# Altium schematic symbol library ADAM LIBRARY.SCHLIB: 89 symbols (part 1 of 2)
Pins are listed as number, name and electrical type; pins without a type are passive.

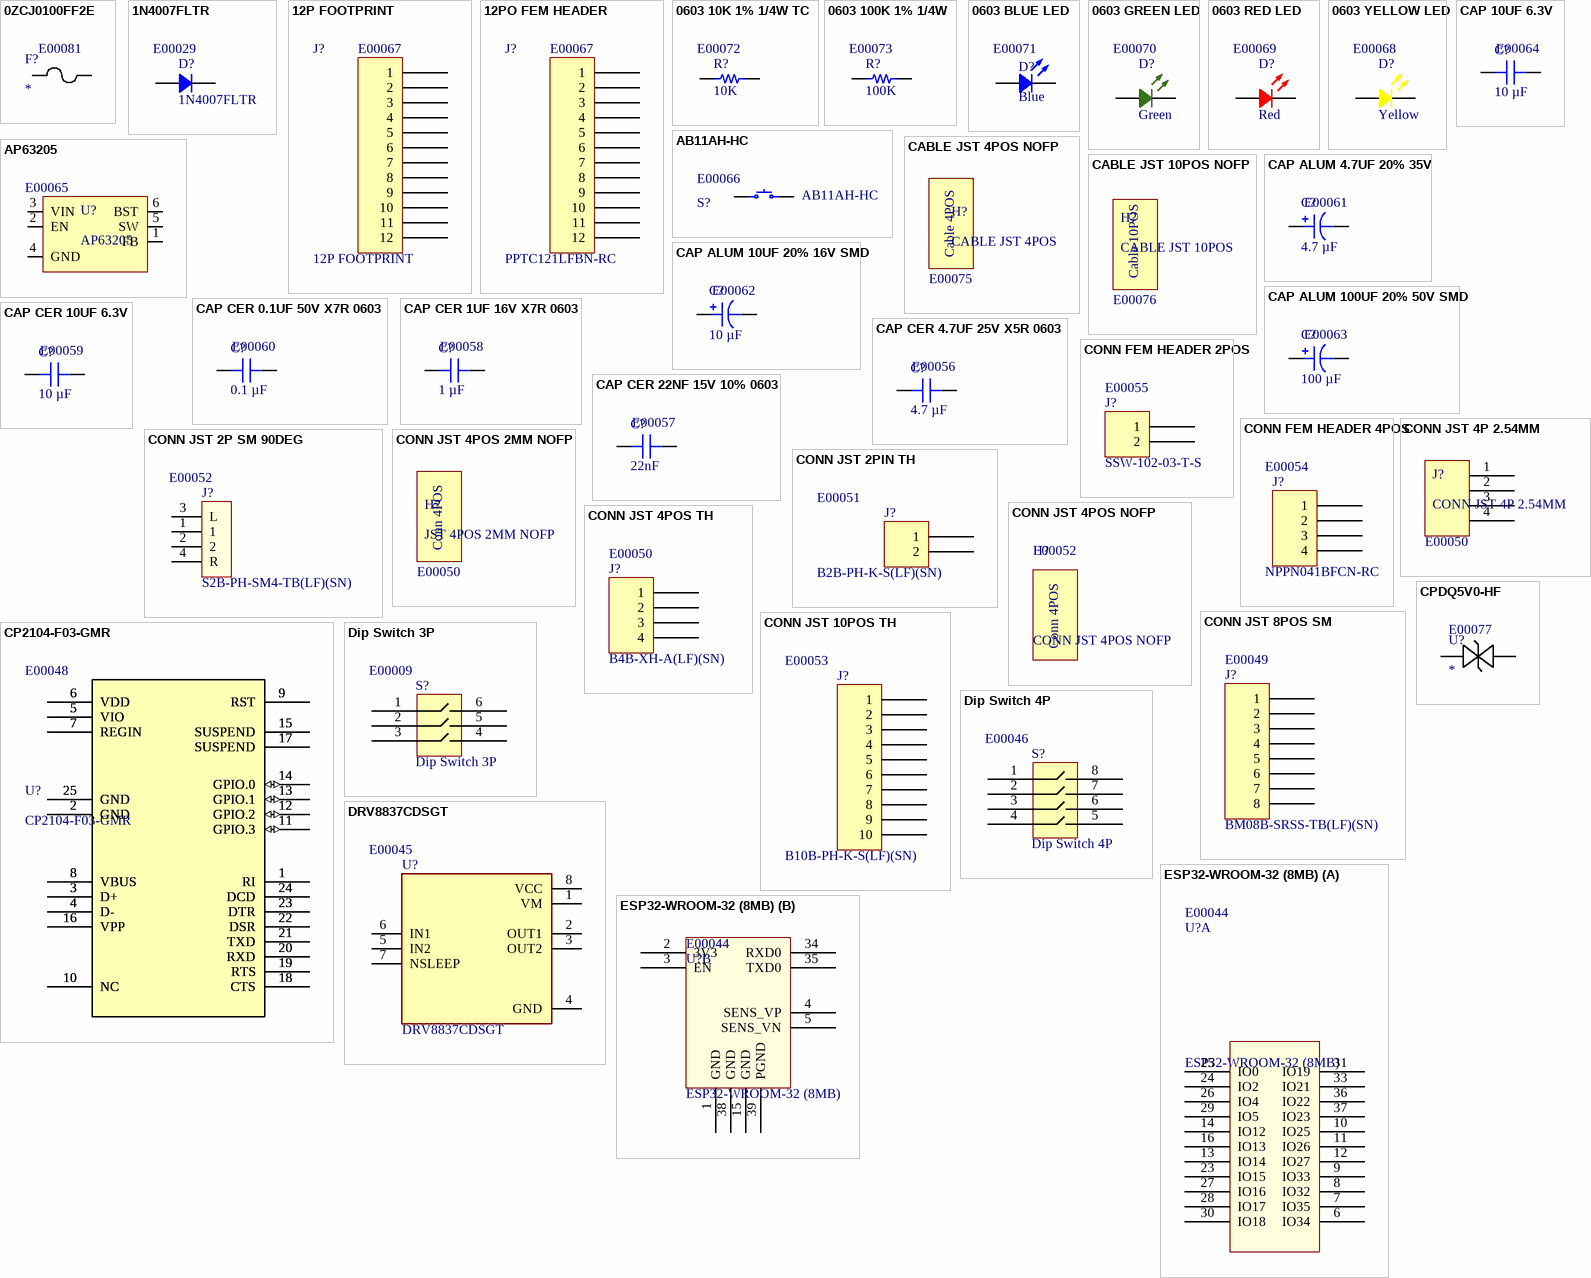
[diagram p0: symbols 0ZCJ0100FF2E to ESP32-WROOM-32 (8MB)]

## 0ZCJ0100FF2E
designator F?  ADAM Inventory Number 1: E00081
Polyswitch 1A 5V; Mfr_Name: Littelfuse Inc; Manufacturer Part Number 1: 0ZCJ0100FF2E; Supplier 1: Digi-Key; Supplier Part Number 1: 507-1806-1-ND
footprint FUSE_NANOSMDCH030F/24-02_LTF
pins: 1, 2

## 1N4007FLTR
designator D?  ADAM Inventory Number 1: E00029
STANDARD RECTIFIER 1000V SOD-123; Manufacturer: SMC Diode Solutions; Capacitance @ Vr, F: 15pF @ 4V, 1MHz; Current - Average Rectified (Io): 1A; Current - Reverse Leakage @ Vr: 5µA @ 1000V; Speed: Standard Recovery >500ns, > 200mA (Io); Voltage - Forward (Vf) (Max) @ If: 1.1V @ 1A; ComponentLink1Description: Datasheet; ComponentLink1URL: http://www.smc-diodes.com/propdf/1N4001FL-1N4007FL%20N1646%20REV.A.pdf; ComponentLink2Description: DigiKey Link; ComponentLink2URL: http://digikey.com/product-detail/en/smc-diode-solutions/1N4007FLTR/1655-1N4007FLCT-ND/11657827; Diode Type: Standard; LastUpdated: 2020-08-30 20:59:55; Lifecycle Status: Active; Minimum Order: 1; Mounting Type: Surface Mount; Package / Case: SOD-123F; Packaging: TapeAndReel; PartId: 3314; Price: 0.01; Supplier 1: DigiKey; Supplier Part Number 1: 1655-1N4007FLCT-ND; Supplier Device Package: SOD-123FL; Voltage - DC Reverse (Vr) (Max): 1000V; Manufacturer Part Number 1: 1N4007FLTR
footprint SOD123F (Footprint diode)
pins: 1, 2

## 12P FOOTPRINT
designator J?  ADAM Inventory Number 1: E00067
FOOTPRINT FOR TEST OR JUST IN CASE; Manufacturer: Harwin Inc.; Manufacturer Part Number 1: PPTC121LFBN-RC; Connector Type: Receptacle; Current Rating (Amps): 3A; Mated Stacking Heights: 11.04mm, 12.63mm; Material Flammability Rating: UL94 V-0; Number of Positions: 12; Number of Positions Loaded: All; Style: Board to Board or Cable; ComponentLink1Description: Datasheet; ComponentLink1URL: https://cdn.harwin.com/pdfs/C001XX_M20_Series_Connectors.pdf; ComponentLink2Description: DigiKey Link; ComponentLink2URL: http://digikey.com/product-detail/en/harwin-inc/M20-7821242/952-1852-ND/3727819; Contact Finish - Mating: Gold; Contact Finish - Post: Tin; Contact Finish Thickness - Mating: Flash; Contact Type: Female Socket; Fastening Type: Push-Pull; Insulation Color: Black; LastUpdated: 2022-09-21 18:59:31; Lifecycle Status: Active; Minimum Order: 5004; Mounting Type: Through Hole; Number of Rows: 1; Operating Temperature: -40°C ~ 105°C; Packaging: Tube; Part Status: Active; Price: 0.74; Series: M20; Termination: Solder; Supplier 1: Digi-Key; Supplier Part Number 1: S6100-ND
footprint CONN 12PIN FEMALE (12 pin female conn 0.5mm spacing)
pins: 1, 2, 3, 4, 5, 6, 7, 8, 9, 10, 11, 12

## 12PO FEM HEADER
designator J?, comment PPTC121LFBN-RC  ADAM Inventory Number 1: E00067
CONN RCPT 12POS 0.1 GOLD PCB; Manufacturer: Harwin Inc.; Connector Type: Receptacle; Current Rating (Amps): 3A; Mated Stacking Heights: 11.04mm, 12.63mm; Material Flammability Rating: UL94 V-0; Number of Positions: 12; Number of Positions Loaded: All; Style: Board to Board or Cable; ComponentLink1Description: Datasheet; ComponentLink1URL: https://cdn.harwin.com/pdfs/C001XX_M20_Series_Connectors.pdf; ComponentLink2Description: DigiKey Link; ComponentLink2URL: http://digikey.com/product-detail/en/harwin-inc/M20-7821242/952-1852-ND/3727819; Contact Finish - Mating: Gold; Contact Finish - Post: Tin; Contact Finish Thickness - Mating: Flash; Contact Type: Female Socket; Fastening Type: Push-Pull; Insulation Color: Black; LastUpdated: 2022-09-21 18:59:31; Lifecycle Status: Active; Minimum Order: 5004; Mounting Type: Through Hole; Number of Rows: 1; Operating Temperature: -40°C ~ 105°C; Packaging: Tube; Part Status: Active; Price: 0.74; Series: M20; Termination: Solder; Supplier 1: Digi-Key; Supplier Part Number 1: S6100-ND; Manufacturer Part Number 1: PPTC121LFBN-RC
footprint CONN 12PIN FEMALE (12 pin female conn 0.5mm spacing)
pins: 1, 2, 3, 4, 5, 6, 7, 8, 9, 10, 11, 12

## 0603 10K 1% 1/4W TC
designator R?, comment ADAM Inventory Number 1: E00072  (hidden comment: 10K)
RES 0603 10K 1% 1/4W TC; Manufacturer Part Number 1: CMP0603-FX-1002ELF; Manufacturer: Bourns Inc.; Power (Watts): 0.25W, 1/4W; Temperature Coefficient: ±100ppm/°C; ComponentLink1Description: Datasheet; ComponentLink1URL: https://www.bourns.com/docs/Product-Datasheets/CMP.pdf; ComponentLink2Description: DigiKey Link; ComponentLink2URL: https://www.digikey.com/en/products/detail/bourns-inc/CMP0603-FX-1002ELF/12333644; Composition: Thick Film; Device Package: 0603 (1608 Metric); Features: Pulse Withstanding; Height - Seated (Max): 0.022" (0.55mm); LastUpdated: 2023-04-04 19:28:09; Lifecycle Status: Active; Minimum Order: 1; Number of Terminations: 2; Operating Temperature: -55°C ~ 155°C; Package / Case: 0603 (1608 Metric); Packaging: TapeAndReel; PartId: 64115; Part Status: Active; Price: 0.02; Resistance: 10K; Series: CMP; Size / Dimension: 0.063" L x 0.031" W (1.60mm x 0.80mm); Supplier 1: DigiKey; Supplier Part Number 1: 118-CMP0603-FX-1002ELFCT-ND; Supplier Device Package: 0603; Tolerance: ±1%; Value: 10K
footprint RES 0603
pins: 1, 2

## 0603 100K 1% 1/4W
designator R?, comment ADAM Inventory Number 1: E00073  (hidden comment: 100K)
RES 0603 100K 1% 1/4W; Manufacturer Part Number 1: CMP0603AFX-1003ELF; Manufacturer: Bourns Inc.; Power (Watts): 0.25W, 1/4W; Temperature Coefficient: ±100ppm/°C; ComponentLink1Description: Datasheet; ComponentLink1URL: https://www.bourns.com/docs/Product-Datasheets/CMP-A.pdf; ComponentLink2Description: DigiKey Link; ComponentLink2URL: https://www.digikey.com/en/products/detail/bourns-inc/CMP0603AFX-1003ELF/12333642; Composition: Thick Film; Device Package: 0603 (1608 Metric); Features: Anti-Sulfur, Automotive AEC-Q200, Moisture Resistant, Pulse Withstanding; Height - Seated (Max): 0.022" (0.55mm); LastUpdated: 2023-04-04 19:28:10; Lifecycle Status: Active; Minimum Order: 1; Number of Terminations: 2; Operating Temperature: -55°C ~ 155°C; Package / Case: 0603 (1608 Metric); Packaging: TapeAndReel; PartId: 64150; Part Status: Active; Price: 0.03; Ratings: AEC-Q200; Resistance: 100K; Series: CMP-A; Size / Dimension: 0.063" L x 0.031" W (1.60mm x 0.80mm); Supplier 1: DigiKey; Supplier Part Number 1: 118-CMP0603AFX-1003ELFCT-ND; Supplier Device Package: 0603; Tolerance: ±1%; Value: 100K
footprint RES 0603
pins: 1, 2

## 0603 BLUE LED
designator D?, comment Blue  ADAM Inventory Number 1: E00071
Blue 470nm LED Indication - Discrete 3.3V 0603 (1608 Metric); Manufacturer Part Number 1: APT1608LVBC/D; Supplier 1: Digi-Key; Supplier Part Number 1: 754-1933-1-ND
footprint Blue LED 0603 (Blue LED)
pins: 1, 2

## 0603 GREEN LED
designator D?, comment Green  ADAM Inventory Number 1: E00070
LED GREEN 0603 SMD; Manufacturer Part Number 1: 5973316507F; Manufacturer: Dialight; Configuration: Standard; Current - Test: 20mA; Lens Color: 1.24mm; Lens Style: Round with Domed Top; Millicandela Rating: 34mcd; Voltage - Forward (Vf) (Typ): 2V; Wavelength - Dominant: 560nm; Color: Green; ComponentLink1Description: Datasheet; ComponentLink1URL: http://www.dialightsignalsandcomponents.com/Assets/Drawings/2D_Drawings_DrawingDetailedSpec/NewDrawings/C18371C.pdf; ComponentLink2Description: DigiKey Link; ComponentLink2URL: https://www.digikey.com/en/products/detail/dialight/5973316507F/9385428; Device Package: 0603 (1608 Metric); Height (Max): 1.24mm; LastUpdated: 2023-03-27 19:52:49; Lifecycle Status: Active; Minimum Order: 1; Mounting Type: Surface Mount; Package / Case: 0603 (1608 Metric); Packaging: TapeAndReel; PartId: 587; Part Status: Active; Price: 0.13; Series: 597; Size / Dimension: 1.60mm L x 0.80mm W; Supplier 1: DigiKey; Supplier Part Number 1: 350-4373-1-ND; Supplier Device Package: 0603; Value: Green
footprint Green LED 0603 (Green led SMD)
pins: 1, 2

## 0603 RED LED
designator D?, comment Red  ADAM Inventory Number 1: E00069
0603 RED LED; Manufacturer Part Number 1: BL-HUB36A-AV-TRB; Manufacturer: American Bright Optoelectronics Corporation; Configuration: Standard; Current - Test: 20mA; Lens Color: Colorless; Lens Style: Rectangle with Flat Top; Lens Transparency: Clear; Millicandela Rating: 94mcd; Viewing Angle: 120°; Voltage - Forward (Vf) (Typ): 2.2V; Wavelength - Dominant: 632nm; Wavelength - Peak: 645nm; Color: Red; ComponentLink1Description: Datasheet; ComponentLink1URL: https://americanbrightled.com/pdffiles/smt/BL-HUB36A-AV-TRB.pdf; ComponentLink2Description: DigiKey Link; ComponentLink2URL: https://www.digikey.com/en/products/detail/american-bright-optoelectronics-corporation/BL-HUB36A-AV-TRB/9678174; Device Package: 0603 (1608 Metric); Height (Max): 0.70mm; LastUpdated: 2023-03-27 19:53:19; Lifecycle Status: Active; Minimum Order: 1; Mounting Type: Surface Mount; Package / Case: 0603 (1608 Metric); Packaging: TapeAndReel; PartId: 1020; Part Status: Active; Price: 0.04; Series: -; Size / Dimension: 1.60mm L x 0.80mm W; Supplier 1: DigiKey; Supplier Part Number 1: BL-HUB36A-AV-TRBCT-ND; Supplier Device Package: 0603; Value: Red
footprint Red Led 0603 (red led smd)
pins: 1, 2

## 0603 YELLOW LED
designator D?, comment Yellow  ADAM Inventory Number 1: E00068
0603 YELLOW; Manufacturer Part Number 1: BL-HKC36D-AV-TRB; Manufacturer: American Bright Optoelectronics Corporation; Configuration: 0603; Current - Test: 20mA; Lens Color: Colorless; Lens Size: 0.87mm x 0.80mm; Lens Style: Rectangle with Flat Top; Lens Transparency: Clear; Millicandela Rating: 120mcd; Viewing Angle: 120°; Voltage - Forward (Vf) (Typ): 2V; Wavelength - Dominant: 589nm; Wavelength - Peak: 590nm; Color: Yellow; ComponentLink1Description: Datasheet; ComponentLink1URL: http://americanbrightled.com/pdffiles/smt/BL-HKC36D-AV-TRB.pdf; ComponentLink2Description: DigiKey Link; ComponentLink2URL: https://www.digikey.com/en/products/detail/american-bright-optoelectronics-corporation/BL-HKC36D-AV-TRB/9678175; Device Package: 0603 (1608 Metric); Height (Max): 0.85mm; LastUpdated: 2023-03-27 19:54:01; Lifecycle Status: Active; Minimum Order: 1; Mounting Type: Surface Mount; Package / Case: 0603 (1608 Metric); Packaging: TapeAndReel; PartId: 82; Part Status: Active; Price: 0.04; Series: -; Size / Dimension: 1.60mm L x 0.80mm W; Supplier 1: DigiKey; Supplier Part Number 1: BL-HKC36D-AV-TRBCT-ND; Supplier Device Package: 0603; Value: Yellow
footprint YELLOW LED 0603 - duplicate (Yellow led 0603 SMD)
pins: 1, 2

## AB11AH-HC
designator S?  ADAM Inventory Number 1: E00066
SWITCH PUSH SPST-NO 0.4VA 28V; Manufacturer: NKK Switches; Actuator Type: Round, Button; Color - Actuator/Cap: Red; Current Rating (Amps): 0.4VA (AC/DC); Switch Function: Off-Mom; Manufacturer Part Number 1: AB11AH-HC; Circuit: SPST-NO; ComponentLink1Description: Datasheet; ComponentLink1URL: https://www.nkkswitches.com/pdf/Apushbuttons.pdf; ComponentLink2Description: DigiKey Link; ComponentLink2URL: http://digikey.com/product-detail/en/nkk-switches/AB11AH-HC/360-2604-ND/1056046; Features: Sealed - Fully; LastUpdated: 2020-01-25 20:05:42; Lifecycle Status: Active; Minimum Order: 1; Mounting Type: Through Hole, Right Angle; Operating Temperature: -30°C ~ 85°C; Packaging: Tray; Part Status: Active; Price: 5.00; Series: AB; Supplier 1: DigiKey; Supplier Part Number 1: 360-2604-ND; Termination Style: PC Pin; Type: Standard; Voltage Rating - AC: 28V; Voltage Rating - DC: 28V
footprint BUTTON AB11AH-HC (HEAVY BUTTON RED)
pins: 1, 2

## AP63205
designator U?  ADAM Inventory Number 1: E00065
Buck Switching Regulator IC Positive Fixed 5V 1 Output 2A SOT-23-6 Thin, TSOT-23-6; Manufacturer Part Number 1: AP63205WU-7
footprint AP63205 (Boost up BUCK)
pins: 1 FB, 2 EN, 3 VIN, 4 GND, 5 SW, 6 BST

## CABLE JST 4POS NOFP
designator H?, comment CABLE JST 4POS  ADAM Inventory Number 1: E00075
Manufacturer Part Number 1: 2177961041; Supplier 1: Mouser; Supplier Part Number 1: 538-217796-1041
text: Cable 4POS

## CABLE JST 10POS NOFP
designator H?, comment CABLE JST 10POS  ADAM Inventory Number 1: E00076
No footprint, only for BOM; Manufacturer Part Number 1: A10KR10KR26E254A; Supplier 1: Digi-Key; Supplier Part Number 1: 455-3496-ND
text: Cable 10POS

## CAP 10UF 6.3V
designator C?, comment ADAM Inventory Number 1: E00064  (hidden comment: 10 µF)
CAP CER 10UF 6.3V X5R 0603; Manufacturer Part Number 1: GRM188R60J106ME47D; manufacturer: Murata Electronics; Tolerance: ±20%; Applications: General Purpose; Capacitance: 10 µF; componentlink1description: Datasheet; componentlink1url: https://www.murata.com/~/media/webrenewal/support/library/catalog/products/capacitor/mlcc/c02e.ashx?la=en-us; componentlink2description: DigiKey Link; componentlink2url: https://www.digikey.com/en/products/detail/murata-electronics/GRM188R60J106ME47D/965910; Device Package: 0603 (1608 Metric); lastupdated: 2023-03-30 19:09:15; Lifecycle Status: Active; Minimum Order: 1; Mounting Type: Surface Mount, MLCC; Operating Temperature: -55°C ~ 85°C; Package / Case: 0603 (1608 Metric); packaging: TapeAndReel; partid: 2351; Part Status: Active; price: 0.02; series: GRM; Size / Dimension: 0.063" L x 0.031" W (1.60mm x 0.80mm); Supplier 1: DigiKey; Supplier Part Number 1: 490-3896-1-ND; Temperature Coefficient: X5R; Thickness (Max): 0.035" (0.90mm); Voltage - Rated: 6.3V; Value: 10 µF
footprint CAP 0603 (Cap ceramique 0603)
pins: 1, 2

## CAP ALUM 4.7UF 20% 35V
designator C?, comment 4.7 µF  ADAM Inventory Number 1: E00061
CAP ALUM 4.7UF 20% 35V SMD; manufacturer: United Chemi-Con; Manufacturer Part Number 1: EMVE350ADA4R7MD55G; Lifetime @ Temp.: 1000 Hrs @ 105°C; Polarization: Polar; Ripple Current @ Low Frequency: 16 mA @ 120 Hz; Surface Mount Land Size: 0.169" L x 0.169" W (4.30mm x 4.30mm); Applications: General Purpose; Capacitance: 4.7 µF; componentlink1description: Datasheet; componentlink1url: //media.digikey.com/pdf/Data%20Sheets/United%20Chemi-Con%20PDFs/MVE%20Series.pdf; componentlink2description: DigiKey Link; componentlink2url: https://www.digikey.com/en/products/detail/united-chemi-con/EMVE350ADA4R7MD55G/756875; Device Package: Radial, Can - SMD; Height - Seated (Max): 0.205" (5.20mm); lastupdated: 2023-04-04 19:53:03; Lifecycle Status: Active; Minimum Order: 1; Mounting Type: Surface Mount; Operating Temperature: -40°C ~ 105°C; Package / Case: Radial, Can - SMD; packaging: TapeAndReel; partid: 7039; Part Status: Active; price: 0.06; series: Alchip™- MVE; Size / Dimension: 0.157" Dia (4.00mm); Tolerance: ±20%; Voltage - Rated: 35 V; Supplier 1: Mouser; Supplier Part Number 1: 661-EMVE350ADA4R7MD5; value: 4.7 µF
footprint CAP ALUM 4.3MM2
pins: 1, 2

## CAP ALUM 10UF 20% 16V SMD
designator C?, comment 10 µF  ADAM Inventory Number 1: E00062
CAP ALUM 10UF 20% 16V SMD; manufacturer: Nichicon; Manufacturer Part Number 1: UWX1C100MCL1GB; Lifetime @ Temp.: 2000 Hrs @ 85°C; Polarization: Polar; Ripple Current @ High Frequency: 34.5 mA @ 10 kHz; Ripple Current @ Low Frequency: 23 mA @ 120 Hz; Surface Mount Land Size: 0.169" L x 0.169" W (4.30mm x 4.30mm); Applications: General Purpose; Capacitance: 10 µF; componentlink1description: Datasheet; componentlink1url: https://products.nichicon.co.jp/en/pdf/XJA043/e-uwx.pdf; componentlink2description: DigiKey Link; componentlink2url: https://www.digikey.com/en/products/detail/nichicon/UWX1C100MCL1GB/589841; Device Package: Radial, Can - SMD; Height - Seated (Max): 0.213" (5.40mm); lastupdated: 2023-04-08 19:55:12; Lifecycle Status: Active; Minimum Order: 1; Mounting Type: Surface Mount; Operating Temperature: -40°C ~ 85°C; Package / Case: Radial, Can - SMD; packaging: TapeAndReel; partid: 7030; Part Status: Active; price: 0.06; series: UWX; Size / Dimension: 0.157" Dia (4.00mm); Supplier 1: DigiKey; Supplier Part Number 1: 493-2100-1-ND; Tolerance: ±20%; value: 10 µF; Voltage - Rated: 16 V
footprint CAP ALUM 4.3MM2
pins: 1, 2

## CAP ALUM 100UF 20% 50V SMD
designator C?, comment 100 µF  ADAM Inventory Number 1: E00063
CAP ALUM 100UF 20% 50V SMD; Manufacturer Part Number 1: UWT1H101MNL1GS; manufacturer: Nichicon; Lifetime @ Temp.: 1000 Hrs @ 105°C; Polarization: Polar; Ripple Current @ High Frequency: 210 mA @ 10 kHz; Ripple Current @ Low Frequency: 140 mA @ 120 Hz; Surface Mount Land Size: 0.327" L x 0.327" W (8.30mm x 8.30mm); Applications: General Purpose; Capacitance: 100 µF; componentlink1description: Datasheet; componentlink1url: https://products.nichicon.co.jp/en/pdf/XJA043/e-uwt.pdf; componentlink2description: DigiKey Link; componentlink2url: https://www.digikey.com/en/products/detail/nichicon/UWT1H101MNL1GS/589967; Device Package: Radial, Can - SMD; Height - Seated (Max): 0.413" (10.50mm); lastupdated: 2023-04-08 20:11:02; Lifecycle Status: Active; Minimum Order: 1; Mounting Type: Surface Mount; Operating Temperature: -55°C ~ 105°C; Package / Case: Radial, Can - SMD; packaging: TapeAndReel; partid: 7453; Part Status: Active; price: 0.11; series: UWT; Size / Dimension: 0.315" Dia (8.00mm); Supplier 1: DigiKey; Supplier Part Number 1: 493-2226-1-ND; Tolerance: ±20%; value: 100 µF; Voltage - Rated: 50 V
footprint CAP ALSMD ELEC 8.3MM H10.5MM (Aluminum SMD Electrolytic Capacitor, 8.30mm Land Size, 8.00mm Diameter, 10.50mm Height, 10.00mm Maximum Leads Span)
pins: 1, 2

## CAP CER 0.1UF 50V X7R 0603
designator C?, comment ADAM Inventory Number 1: E00060  (hidden comment: 0.1 µF)
CAP CER 0.1UF 50V X7R 0603; Manufacturer Part Number 1: C0603C104K5RAC7411; manufacturer: KEMET; Tolerance: ±10%; Applications: Bypass, Decoupling; Capacitance: 0.1 µF; componentlink1description: Datasheet; componentlink1url: https://api.kemet.com/component-edge/download/datasheet/C0603C104K5RAC7411.pdf; componentlink2description: DigiKey Link; componentlink2url: https://www.digikey.com/en/products/detail/kemet/C0603C104K5RAC7411/3317013; Device Package: 0603 (1608 Metric); lastupdated: 2023-03-28 19:09:05; Lifecycle Status: Active; Minimum Order: 1; Mounting Type: Surface Mount, MLCC; Operating Temperature: -55°C ~ 125°C; Package / Case: 0603 (1608 Metric); packaging: TapeAndReel; partid: 2233; Part Status: Active; price: 0.01; series: SMD Comm X7R; Size / Dimension: 0.063" L x 0.031" W (1.60mm x 0.80mm); Supplier 1: DigiKey; Supplier Part Number 1: 399-C0603C104K5RAC7411CT-ND; Temperature Coefficient: X7R; Thickness (Max): 0.035" (0.90mm); Voltage - Rated: 50V; Value: 0.1 µF
footprint CAP 0603 (Cap ceramique 0603)
pins: 1, 2

## CAP CER 1UF 16V X7R 0603
designator C?, comment ADAM Inventory Number 1: E00058  (hidden comment: 1 µF)
CAP CER 1UF 16V X7R 0603; Manufacturer Part Number 1: C0603C105K4RACAUTO; manufacturer: KEMET; Tolerance: ±10%; Applications: Automotive, Bypass, Decoupling; Capacitance: 1 µF; componentlink1description: Datasheet; componentlink1url: https://api.kemet.com/component-edge/download/datasheet/C0603C105K4RACAUTO.pdf; componentlink2description: DigiKey Link; componentlink2url: https://www.digikey.com/en/products/detail/kemet/C0603C105K4RACAUTO/8635831; Device Package: 0603 (1608 Metric); lastupdated: 2023-03-30 19:09:16; Lifecycle Status: Active; Minimum Order: 0; Mounting Type: Surface Mount, MLCC; Operating Temperature: -55°C ~ 125°C; Package / Case: 0603 (1608 Metric); partid: 2179; Part Status: Active; price: 0; Ratings: AEC-Q200; series: SMD Auto X7R; Size / Dimension: 0.063" L x 0.031" W (1.60mm x 0.80mm); Supplier 1: DigiKey; Supplier Part Number 1: 399-17704-2-ND; Temperature Coefficient: X7R; Thickness (Max): 0.037" (0.95mm); Voltage - Rated: 16V; Value: 1 µF
footprint CAP 0603 (Cap ceramique 0603)
pins: 1, 2

## CAP CER 4.7UF 25V X5R 0603
designator C?, comment ADAM Inventory Number 1: E00056  (hidden comment: 4.7 µF)
CAP CER 4.7UF 25V X5R 0603; Manufacturer Part Number 1: CL10A475KA8NQNC; manufacturer: Samsung Electro-Mechanics; Tolerance: ±10%; Applications: General Purpose; Capacitance: 4.7 µF; componentlink1description: Datasheet; componentlink1url: http://www.samsungsem.com/kr/support/product-search/mlcc/CL10A475KA8NQNC.jsp; componentlink2description: DigiKey Link; componentlink2url: https://www.digikey.com/en/products/detail/samsung-electro-mechanics/CL10A475KA8NQNC/3887558; Device Package: 0603 (1608 Metric); lastupdated: 2023-03-30 19:09:15; Lifecycle Status: Active; Minimum Order: 1; Mounting Type: Surface Mount, MLCC; Operating Temperature: -55°C ~ 85°C; Package / Case: 0603 (1608 Metric); packaging: TapeAndReel; partid: 2349; Part Status: Active; price: 0.06; series: CL; Size / Dimension: 0.063" L x 0.031" W (1.60mm x 0.80mm); Supplier 1: DigiKey; Supplier Part Number 1: 1276-1900-1-ND; Temperature Coefficient: X5R; Thickness (Max): 0.035" (0.90mm); Voltage - Rated: 25V; Value: 4.7 µF
footprint CAP 0603 (Cap ceramique 0603)
pins: 1, 2

## CAP CER 10UF 6.3V
designator C?, comment ADAM Inventory Number 1: E00059  (hidden comment: 10 µF)
CAP CER 10UF 6.3V X5R 0603; manufacturer: Murata Electronics; Manufacturer Part Number 1: GRM188R60J106ME47D; Tolerance: ±20%; Applications: General Purpose; Capacitance: 10 µF; componentlink1description: Datasheet; componentlink1url: https://www.murata.com/~/media/webrenewal/support/library/catalog/products/capacitor/mlcc/c02e.ashx?la=en-us; componentlink2description: DigiKey Link; componentlink2url: https://www.digikey.com/en/products/detail/murata-electronics/GRM188R60J106ME47D/965910; Device Package: 0603 (1608 Metric); lastupdated: 2023-03-30 19:09:15; Lifecycle Status: Active; Minimum Order: 1; Mounting Type: Surface Mount, MLCC; Operating Temperature: -55°C ~ 85°C; Package / Case: 0603 (1608 Metric); packaging: TapeAndReel; partid: 2351; Part Status: Active; price: 0.02; series: GRM; Size / Dimension: 0.063" L x 0.031" W (1.60mm x 0.80mm); Supplier 1: DigiKey; Supplier Part Number 1: 490-3896-1-ND; Temperature Coefficient: X5R; Thickness (Max): 0.035" (0.90mm); Voltage - Rated: 6.3V; Value: 10 µF
footprint CAP 0603 (Cap ceramique 0603)
pins: 1, 2

## CAP CER 22NF 15V 10% 0603
designator C?, comment ADAM Inventory Number 1: E00057  (hidden comment: 22nF)
CAP CER 22pF 15V 10% 0603, X7R; manufacturer: Taiyo Yuden; Manufacturer Part Number 1: EMF107B7223KAHT; Voltage - Rated: 16V; Applications: Automotive, SMPS Filtering; Capacitance: 22nF; componentlink1description: Datasheet; componentlink1url: https://ds.yuden.co.jp/TYCOMPAS/ut/detail?pn=EMF107B7223KAHT&u=M; componentlink2description: DigiKey Link; componentlink2url: https://www.digikey.com/en/products/detail/taiyo-yuden/EMF107B7223KAHT/10379118; Device Package: 0603 (1608 Metric); lastupdated: 2023-04-09 19:08:51; Lifecycle Status: Active; Minimum Order: 1; Mounting Type: Surface Mount, MLCC; Operating Temperature: -55°C ~ 125°C; Package / Case: 0603 (1608 Metric); packaging: TapeAndReel; partid: 4621; Part Status: Active; price: 0.02; Ratings: AEC-Q200; series: M; Size / Dimension: 0.063" L x 0.031" W (1.60mm x 0.80mm); Supplier 1: DigiKey; Supplier Part Number 1: 587-6552-1-ND; Temperature Coefficient: X7R; Thickness (Max): 0.035" (0.90mm); Tolerance: ±10%; Value: 22nF
footprint CAP 0603 (Cap ceramique 0603)
pins: 1, 2

## CONN FEM HEADER 2POS
designator J?, comment SSW-102-03-T-S  ADAM Inventory Number 1: E00055
CONN RCPT 2POS 0.1 TIN; Manufacturer: Samtec Inc.; Connector Type: Receptacle; Current Rating (Amps): 5.7A per Contact; Material Flammability Rating: UL94 V-0; Number of Positions: 2; Number of Positions Loaded: All; Style: Board to Board or Cable; Manufacturer Part Number 1: SSW-102-03-T-S; ComponentLink2Description: DigiKey Link; ComponentLink2URL: http://digikey.com/product-detail/en/samtec-inc/SSW-102-03-T-S/SSW-102-03-T-S-ND/7873010; Contact Finish - Mating: Tin; Contact Finish - Post: Tin; Contact Type: Forked; Fastening Type: Push-Pull; Insulation Color: Black; LastUpdated: 2022-06-21 15:06:02; Lifecycle Status: Active; Minimum Order: 1; Mounting Type: Through Hole; Number of Rows: 1; Operating Temperature: -55°C ~ 105°C; Packaging: Bulk; Part Status: Active; Price: 0.53; Series: SSW; Supplier 1: DigiKey; Supplier Part Number 1: SSW-102-03-T-S-ND; Termination: Solder
footprint CONN FEM HEADER 2PIN
pins: 1, 2

## CONN FEM HEADER 4POS
designator J?, comment NPPN041BFCN-RC  ADAM Inventory Number 1: E00054
CONN HDR 4POS 0.079 GOLD; Manufacturer: Sullins Connector Solutions; Connector Type: Header; Contact Length - Post: 0.094" (2.40mm); Current Rating (Amps): 2A; Material Flammability Rating: UL94 V-0; Number of Positions: 4; Number of Positions Loaded: All; Pitch - Mating: 0.079" (2.00mm); Style: Board to Board; Manufacturer Part Number 1: NPPN041BFCN-RC; ComponentLink1Description: Datasheet; ComponentLink1URL: https://drawings-pdf.s3.amazonaws.com/10483.pdf; ComponentLink2Description: DigiKey Link; ComponentLink2URL: https://www.digikey.com/en/products/detail/sullins-connector-solutions/NPPN041BFCN-RC/804806; Contact Finish - Mating: Gold; Contact Finish - Post: Gold; Contact Finish Thickness - Mating: Flash; Contact Type: Female Socket; Fastening Type: Push-Pull; Insulation Color: Black; Insulation Height: 0.173" (4.40mm); LastUpdated: 2022-06-21 14:42:51; Lifecycle Status: Active; Minimum Order: 1; Mounting Type: Through Hole; Number of Rows: 1; Operating Temperature: -40°C ~ 105°C; Packaging: Tube; Part Status: Active; Price: 0.30; Series: -; Supplier 1: DigiKey; Supplier Part Number 1: S5751-04-ND; Termination: Solder
footprint CONN FEM HEADER 4PIN
pins: 1, 2, 3, 4

## CONN JST 2P SM 90DEG
designator J?  ADAM Inventory Number 1: E00052  Supplier Part Number 1: S2B-PH-SM4-TB(LF)(SN)  (hidden comment: CONN JST 2P SM 90DEG)
CONN SM JST 2P; Copyright: Copyright (C) 2023 Ultra Librarian. All rights reserved.; Mfr_Name: JST; Manufacturer Part Number 1: S2B-PH-SM4-TB(LF)(SN); RefDes: RefDes; Type: DEV; Supplier 1: Arrow Electronics; Parameter 1: *
footprint S2B-PH-SM4-TB_LF__SN
pins: 1, 2, 3 L, 4 R

## CONN JST 2PIN TH
designator J?, comment B2B-PH-K-S(LF)(SN)  ADAM Inventory Number 1: E00051
CONN HEADER VERT 2POS 2MM; Manufacturer: JST Sales America Inc.; Contact Length - Mating: 0.130" (3.30mm); Contact Length - Post: 0.134" (3.40mm); Current Rating (Amps): 2A; Material Flammability Rating: UL94 V-0; Number of Positions: 2; Number of Positions Loaded: All; Overall Contact Length: 0.333" (8.45mm); Pitch - Mating: 0.079" (2.00mm); Shrouding: Shrouded - 4 Wall; Style: Board to Cable/Wire; Voltage Rating: 100V; Manufacturer Part Number 1: B2B-PH-K-S(LF)(SN); ComponentLink1Description: Datasheet; ComponentLink1URL: http://www.jst-mfg.com/product/pdf/eng/ePH.pdf; ComponentLink2Description: DigiKey Link; ComponentLink2URL: http://digikey.com/product-detail/en/jst-sales-america-inc/B2B-PH-K-S-LF-SN/455-1704-ND/926611; Connector Type: Header; Contact Finish - Mating: Tin; Contact Finish - Post: Tin; Contact Material: Brass; Contact Shape: Square; Contact Type: Male Pin; Fastening Type: Detent Lock; Insulation Color: Natural; Insulation Height: 0.236" (6.00mm); Insulation Material: Polyamide (PA66), Nylon 6/6; LastUpdated: 2020-01-03 23:40:58; Lifecycle Status: Active; Minimum Order: 1; Mounting Type: Through Hole; Number of Rows: 1; Operating Temperature: -25°C ~ 85°C; Packaging: Bulk; PartId: 11; Part Status: Active; Price: 0.17; Series: PH; Supplier 1: DigiKey; Supplier Part Number 1: 455-1704-ND; Termination: Press-Fit, Solder
footprint CONN JST 2PIN
pins: 1, 2

## CONN JST 4P 2.54MM
designator J?  ADAM Inventory Number 1: E00050
Manufacturer Part Number 1: 0022272041; Supplier 1: Mouser; Supplier Part Number 1: 538-22-27-2041
footprint MOLEX KK 0022272041
pins: 1, 2, 3, 4

## CONN JST 4POS 2MM NOFP
designator H?, comment JST 4POS 2MM NOFP  ADAM Inventory Number 1: E00050
No footprint; Manufacturer Part Number 1: 0022272041; Supplier 1: Mouser; Supplier Part Number 1: 538-22-27-2041
text: Conn 4POS

## CONN JST 4POS NOFP
designator H?  ADAM Inventory Number 1: E00052
CONN HEADER VERT 4POS 2.5MM FOR BOM, NO FOOTPRINT; Manufacturer Part Number 1: B4B-XH-A(LF)(SN); Manufacturer: JST Sales America Inc.; Contact Length - Post: 0.134" (3.40mm); Current Rating (Amps): 3A; Material Flammability Rating: UL94 V-0; Number of Positions: 4; Number of Positions Loaded: All; Pitch - Mating: 0.098" (2.50mm); Shrouding: Shrouded - 4 Wall; Style: Board to Cable/Wire; Voltage Rating: 250V; ComponentLink1Description: Datasheet; ComponentLink1URL: http://www.jst-mfg.com/product/pdf/eng/eXH.pdf; ComponentLink2Description: DigiKey Link; ComponentLink2URL: http://digikey.com/product-detail/en/jst-sales-america-inc/B4B-XH-A-LF-SN/455-2249-ND/1651047; Connector Type: Header; Contact Finish - Mating: Tin; Contact Finish - Post: Tin; Contact Material: Brass; Contact Shape: Square; Contact Type: Male Pin; Fastening Type: Detent Lock; Insulation Color: Natural; Insulation Height: 0.276" (7.00mm); Insulation Material: Polyamide (PA66), Nylon 6/6; LastUpdated: 2020-01-12 23:46:34; Lifecycle Status: Active; Minimum Order: 1; Mounting Type: Through Hole; Number of Rows: 1; Operating Temperature: -25°C ~ 85°C; Packaging: Bulk; PartId: 69; Part Status: Active; Price: 0.21; Series: XH; Supplier 1: DigiKey; Supplier Part Number 1: 455-2249-ND; Termination: Press-Fit, Solder
text: Conn 4POS

## CONN JST 4POS TH
designator J?, comment B4B-XH-A(LF)(SN)  ADAM Inventory Number 1: E00050
CONN HEADER VERT 4POS 2.5MM; Manufacturer: JST Sales America Inc.; Contact Length - Post: 0.134" (3.40mm); Current Rating (Amps): 3A; Material Flammability Rating: UL94 V-0; Number of Positions: 4; Number of Positions Loaded: All; Pitch - Mating: 0.098" (2.50mm); Shrouding: Shrouded - 4 Wall; Style: Board to Cable/Wire; Voltage Rating: 250V; Manufacturer Part Number 1: B4B-XH-A(LF)(SN); ComponentLink1Description: Datasheet; ComponentLink1URL: http://www.jst-mfg.com/product/pdf/eng/eXH.pdf; ComponentLink2Description: DigiKey Link; ComponentLink2URL: http://digikey.com/product-detail/en/jst-sales-america-inc/B4B-XH-A-LF-SN/455-2249-ND/1651047; Connector Type: Header; Contact Finish - Mating: Tin; Contact Finish - Post: Tin; Contact Material: Brass; Contact Shape: Square; Contact Type: Male Pin; Fastening Type: Detent Lock; Insulation Color: Natural; Insulation Height: 0.276" (7.00mm); Insulation Material: Polyamide (PA66), Nylon 6/6; LastUpdated: 2020-01-12 23:46:34; Lifecycle Status: Active; Minimum Order: 1; Mounting Type: Through Hole; Number of Rows: 1; Operating Temperature: -25°C ~ 85°C; Packaging: Bulk; PartId: 69; Part Status: Active; Price: 0.21; Series: XH; Supplier 1: DigiKey; Supplier Part Number 1: 455-2249-ND; Termination: Press-Fit, Solder
footprint CONN JST 4PIN (Conn 4 pin JST)
pins: 1, 2, 3, 4

## CONN JST 8POS SM
designator J?, comment BM08B-SRSS-TB(LF)(SN)  ADAM Inventory Number 1: E00049
CONN HEADER SMD 8POS 1MM; Manufacturer: JST Sales America Inc.; Current Rating (Amps): 0.7A; Material Flammability Rating: UL94 V-0; Number of Positions: 8; Number of Positions Loaded: All; Pitch - Mating: 0.039" (1.00mm); Shrouding: Shrouded - 4 Wall; Style: Board to Cable/Wire; Voltage Rating: 50V; Manufacturer Part Number 1: BM08B-SRSS-TB(LF)(SN); ComponentLink1Description: Datasheet; ComponentLink1URL: http://www.jst-mfg.com/product/pdf/eng/eSR.pdf; ComponentLink2Description: DigiKey Link; ComponentLink2URL: http://digikey.com/product-detail/en/jst-sales-america-inc/BM08B-SRSS-TB-LF-SN/455-1794-1-ND/926865; Connector Type: Header; Contact Finish - Mating: Tin; Contact Finish - Post: Tin; Contact Material: Copper Alloy; Contact Shape: Square; Contact Type: Male Pin; Fastening Type: Push-Pull; Features: Solder Retention; Insulation Color: Natural; Insulation Height: 0.167" (4.25mm); Insulation Material: Polyamide (PA), Nylon; LastUpdated: 2020-01-12 22:15:38; Lifecycle Status: Active; Minimum Order: 1; Mounting Type: Surface Mount; Number of Rows: 1; Operating Temperature: -25°C ~ 85°C; Packaging: TapeAndReel; PartId: 24; Part Status: Active; Price: 0.44; Series: SR; Supplier 1: DigiKey; Supplier Part Number 1: 455-1794-1-ND; Termination: Solder
footprint JST BM08B-SRSS (8 pin JST Conn SM)
pins: 1, 2, 3, 4, 5, 6, 7, 8

## CONN JST 10POS TH
designator J?, comment B10B-PH-K-S(LF)(SN)  ADAM Inventory Number 1: E00053
CONN HEADER VERT 10POS 2MM; Manufacturer: JST Sales America Inc.; Contact Length - Mating: 0.130" (3.30mm); Contact Length - Post: 0.134" (3.40mm); Current Rating (Amps): 2A; Material Flammability Rating: UL94 V-0; Number of Positions: 10; Number of Positions Loaded: All; Overall Contact Length: 0.333" (8.45mm); Pitch - Mating: 0.079" (2.00mm); Shrouding: Shrouded - 4 Wall; Style: Board to Cable/Wire; Voltage Rating: 100V; Manufacturer Part Number 1: B10B-PH-K-S(LF)(SN); ComponentLink1Description: Datasheet; ComponentLink1URL: http://www.jst-mfg.com/product/pdf/eng/ePH.pdf; ComponentLink2Description: DigiKey Link; ComponentLink2URL: http://digikey.com/product-detail/en/jst-sales-america-inc/B10B-PH-K-S-LF-SN/455-1712-ND/926619; Connector Type: Header; Contact Finish - Mating: Tin; Contact Finish - Post: Tin; Contact Material: Brass; Contact Shape: Square; Contact Type: Male Pin; Fastening Type: Detent Lock; Insulation Color: Natural; Insulation Height: 0.236" (6.00mm); Insulation Material: Polyamide (PA66), Nylon 6/6; LastUpdated: 2020-01-12 22:31:09; Lifecycle Status: Active; Minimum Order: 1; Mounting Type: Through Hole; Number of Rows: 1; Operating Temperature: -25°C ~ 85°C; Packaging: Bulk; PartId: 33; Part Status: Active; Price: 0.46; Series: PH; Supplier 1: DigiKey; Supplier Part Number 1: 455-1712-ND; Termination: Press-Fit, Solder
footprint CONN JST 10PIN
pins: 1, 2, 3, 4, 5, 6, 7, 8, 9, 10

## CP2104-F03-GMR
designator U?  ADAM Inventory Number 1: E00048
USB TO UART CONV; Mfr_Name: Silicon Labs; Copyright: Copyright (C) 2023 Ultra Librarian. All rights reserved.; Manufacturer Part Number 1: CP2104-F03-GMR; RefDes: RefDes; Type: DEV; Supplier 1: Digi-Key; Supplier Part Number 1: 336-4146-1-ND
footprint QFN_F03-GMR_SIL-M
pins: 1 RI, 1 RI, 1 RI, 1 RI, 2 GND, 2 GND, 2 GND, 2 GND, 3 D+, 3 D+, 3 D+, 3 D+, 4 D-, 4 D-, 4 D-, 4 D-, 5 VIO, 5 VIO, 5 VIO, 5 VIO, 6 VDD (power), 6 VDD (power), 6 VDD (power), 6 VDD (power), 7 REGIN, 7 REGIN, 7 REGIN, 7 REGIN, 8 VBUS, 8 VBUS, 8 VBUS, 8 VBUS, 9 RST, 9 RST, 9 RST, 9 RST, 10 NC, 10 NC, 10 NC, 10 NC, 11 GPIO.3 (io), 11 GPIO.3 (io), 11 GPIO.3 (io), 11 GPIO.3 (io), 12 GPIO.2 (io), 12 GPIO.2 (io), 12 GPIO.2 (io), 12 GPIO.2 (io), 13 GPIO.1 (io), 13 GPIO.1 (io), 13 GPIO.1 (io), 13 GPIO.1 (io), 14 GPIO.0 (io), 14 GPIO.0 (io), 14 GPIO.0 (io), 14 GPIO.0 (io), 15 SUSPEND, 15 SUSPEND, 15 SUSPEND, 15 SUSPEND, 16 VPP (power), 16 VPP (power), 16 VPP (power), 16 VPP (power), 17 SUSPEND, 17 SUSPEND, 17 SUSPEND, 17 SUSPEND, 18 CTS, 18 CTS, 18 CTS, 18 CTS, 19 RTS, 19 RTS, 19 RTS, 19 RTS, 20 RXD, 20 RXD, 20 RXD, 20 RXD, 21 TXD, 21 TXD, 21 TXD, 21 TXD, 22 DSR, 22 DSR, 22 DSR, 22 DSR, 23 DTR, 23 DTR, 23 DTR, 23 DTR, 24 DCD, 24 DCD, 24 DCD, 24 DCD, 25 GND, 25 GND, 25 GND, 25 GND

## CPDQ5V0-HF
designator U?  ADAM Inventory Number 1: E00077
Diode TVS bidirectionnel; Mfr_Name: Comchip; Manufacturer Part Number 1: CPDQ5V0-HF; Supplier 1: Digi-Key; Supplier Part Number 1: 641-1478-1-ND
footprint CPDQ
pins: 1, 2

## Dip Switch 3P
designator S?  ADAM Inventory Number 1: E00009
Dip Switch SPST 3 Position Surface Mount Slide (Standard) Actuator 25mA 24VDC; Manufacturer Part Number 1: DS04-254-2-03BK-SMT; Manufacturer: CUI; Source: IC_Component.SchLib; Design Item ID: Switch SLIDE SPDT 3 pos; Component Type: Switches; Supplier 1: Mouser; Supplier Part Number 1: 653-A6S-3102-H
footprint DIPSWITCH SMD 3P (Dip switch surface mount 3 positions)
pins: 1, 2, 3, 4, 5, 6

## Dip Switch 4P
designator S?  ADAM Inventory Number 1: E00046
Dip Switch SPST 4 Position Surface Mount Slide (Standard) Actuator 25mA 24VDC; Manufacturer Part Number 1: DS04-254-2-04BK-SMT; Manufacturer: CUI; Source: IC_Component.SchLib; Design Item ID: Switch SLIDE SPDT 4 pos; Component Type: Switches; Supplier 1: Digi-Key; Supplier Part Number 1: SW1120-ND
footprint Dip Switch SMD
pins: 1, 2, 3, 4, 5, 6, 7, 8

## DRV8837CDSGT
designator U?  ADAM Inventory Number 1: E00045
Motor Driver NMOS PWM 8-WSON (2x2); Supplier 1: Digi-Key; Supplier Part Number 1: 296-44747-1-ND; Manufacturer Part Number 1: DRV8837CDSGT
footprint DRV8837CDSGT (Drive moteur low-mid current)
pins: 1 VM, 2 OUT1, 3 OUT2, 4 GND, 5 IN2, 6 IN1, 7 NSLEEP, 8 VCC

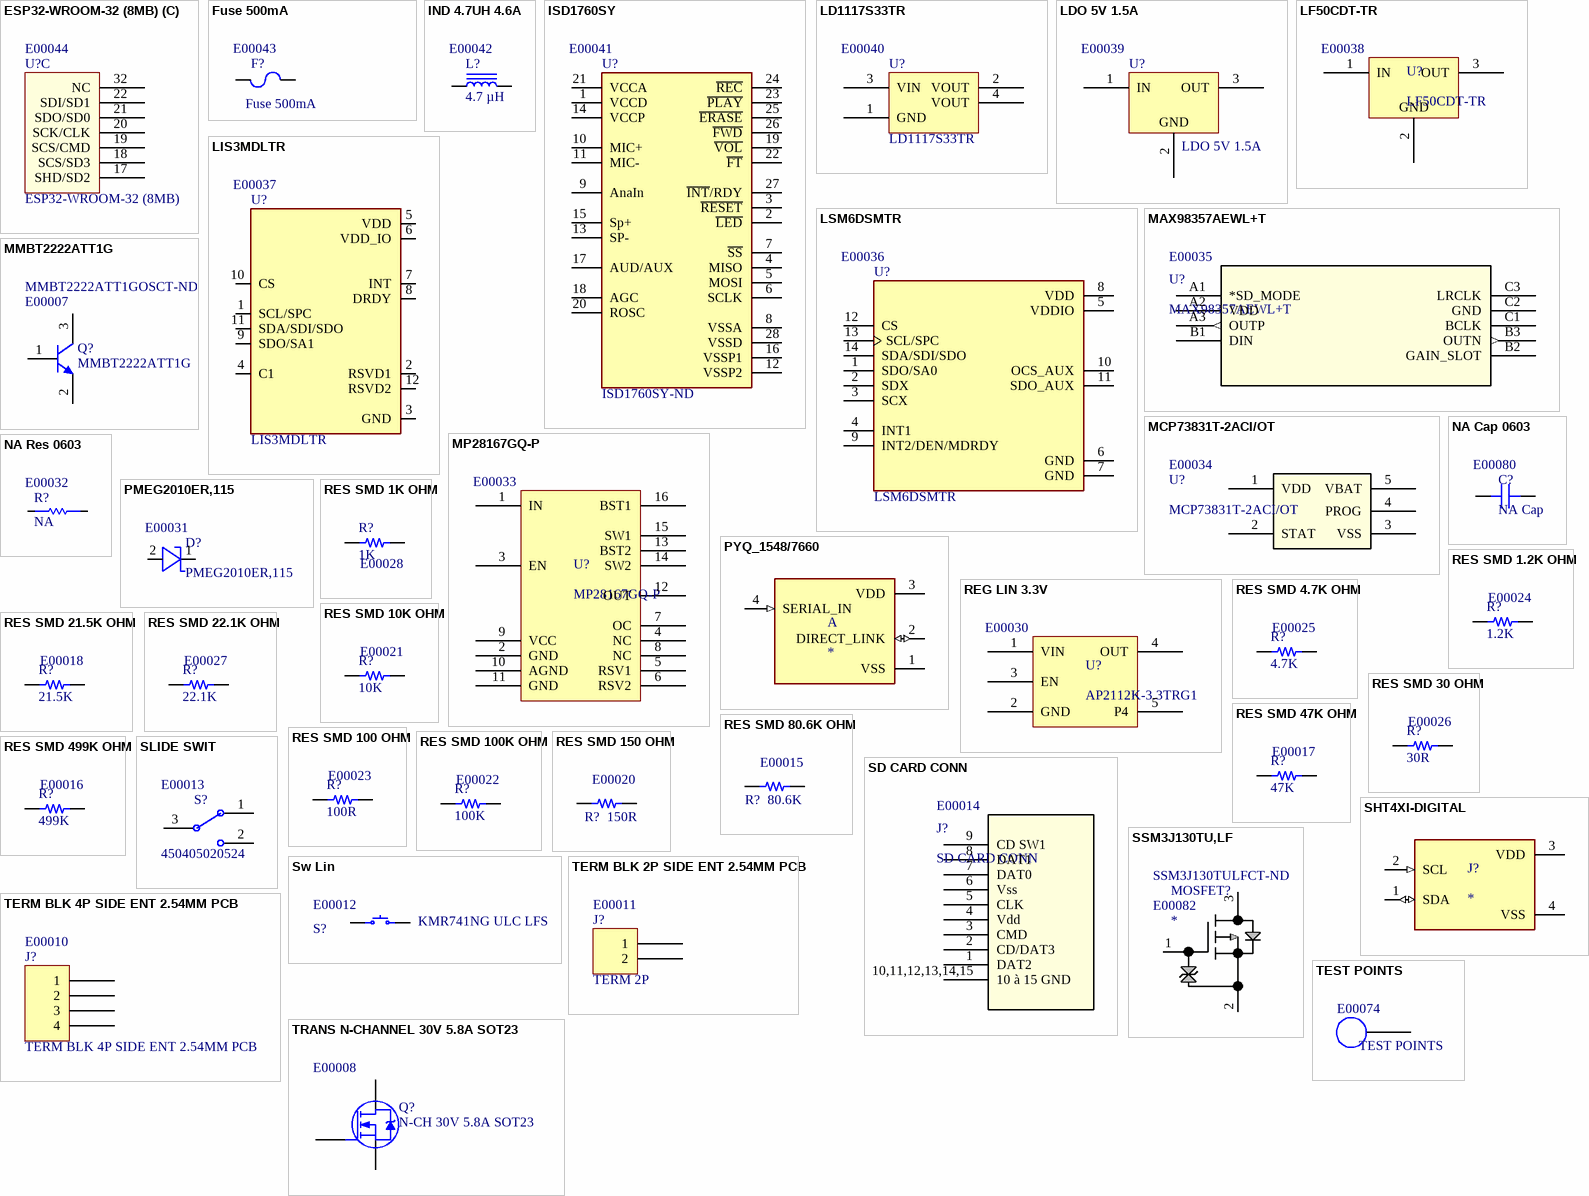
[diagram p1: symbols ESP32-WROOM-32 (8MB) to TRANS N-CHANNEL 30V 5.8A SOT23]

## ESP32-WROOM-32 (8MB)
designator U?  ADAM Inventory Number 1: E00044
No Description Available; Mfr_Name: Espressif Systems; Manufacturer Part Number 1: ESP32-WROOM-32D-N4; Copyright: Copyright (C) 2023 Ultra Librarian. All rights reserved.; RefDes: RefDes; Type: DEV; Supplier 1: Digi-Key; Supplier Part Number 1: 1965-ESP32-WROOM-32D-N4TR-ND
footprint ESP32-WROOM-32D
part A pins: 6 IO34, 7 IO35, 8 IO32, 9 IO33, 10 IO25, 11 IO26, 12 IO27, 13 IO14, 14 IO12, 16 IO13, 23 IO15, 24 IO2, 25 IO0, 26 IO4, 27 IO16, 28 IO17, 29 IO5, 30 IO18, 31 IO19, 33 IO21, 36 IO22, 37 IO23
part B pins: 1 GND, 2 3V3, 3 EN, 4 SENS_VP, 5 SENS_VN, 15 GND, 34 RXD0, 35 TXD0, 38 GND, 39 PGND
part C pins: 17 SHD/SD2, 18 SCS/SD3, 19 SCS/CMD, 20 SCK/CLK, 21 SDO/SD0, 22 SDI/SD1, 32 NC

## Fuse 500mA
designator F?  ADAM Inventory Number 1: E00043
FUSE BOARD MNT 500MA 125VAC/VDC; Manufacturer: Schurter Inc.; Manufacturer Part Number 1: 3413.0113.22; Approval Agency: cURus; Breaking Capacity @ Rated Voltage: 50A; Fuse Type: Board Mount (Cartridge Style Excluded); Melting I²t: 0.02; Response Time: Fast Blow; Voltage Rating - AC: 125V; Approvals: cURus; ComponentLink1Description: Datasheet; ComponentLink1URL: http://www.schurterinc.com/bundles/snceschurter/epim/_ProdPool_/newDS/en/typ_USF_1206.pdf; ComponentLink2Description: DigiKey Link; ComponentLink2URL: http://digikey.com/product-detail/en/schurter-inc/3413.0113.22/486-1675-1-ND/2870075; Current Rating (Amps): 500mA; Device Package: 1206 (3216 Metric); LastUpdated: 2020-09-02 01:30:41; Lifecycle Status: Active; Minimum Order: 1; Mounting Type: Surface Mount; Operating Temperature: -55°C ~ 90°C; Package / Case: 1206 (3216 Metric); Packaging: TapeAndReel; Part Status: Active; Price: 0.24; Series: USF 1206; Size / Dimension: 0.126" L x 0.063" W x 0.024" H (3.20mm x 1.60mm x 0.60mm); Supplier 1: DigiKey; Supplier Part Number 1: 486-1675-1-ND; Voltage Rating - DC: 125V
footprint Fuse 500mA 0.6mm
pins: 1, 1, 2, 2

## IND 4.7UH 4.6A
designator L?, comment 4.7 µH  ADAM Inventory Number 1: E00042
FIXED IND 4.7UH 4.6A 53 MOHM SMD; Manufacturer Part Number 1: SRP5030T-4R7M; Manufacturer: Bourns Inc.; Current - Saturation: 6A; DC Resistance (DCR): 53mOhm Max; Inductance Frequency - Test: 100 kHz; Material - Core: Iron Powder; Shielding: Shielded; Tolerance: ±20%; Type: Drum Core, Wirewound; ComponentLink1Description: Datasheet; ComponentLink1URL: https://www.bourns.com/docs/Product-Datasheets/SRP5030T.pdf; ComponentLink2Description: DigiKey Link; ComponentLink2URL: https://www.digikey.com/en/products/detail/bourns-inc/SRP5030T-4R7M/3986084; Current Rating (Amps): 4.6 A; Device Package: Nonstandard; Height - Seated (Max): 0.118" (3.00mm); Inductance: 4.7 µH; LastUpdated: 2023-04-08 20:02:33; Lifecycle Status: Active; Minimum Order: 1; Mounting Type: Surface Mount; Operating Temperature: -40°C ~ 125°C; Package / Case: Nonstandard; Packaging: TapeAndReel; PartId: 1; Part Status: Active; Price: 0.61; Series: SRP5030T; Size / Dimension: 0.224" L x 0.205" W (5.70mm x 5.20mm); Supplier 1: DigiKey; Supplier Part Number 1: SRP5030T-4R7MCT-ND; Value: 4.7 µH
footprint IND 4.7UH 4.6A
pins: 1, 2

## ISD1760SY
designator U?  ADAM Inventory Number 1: E00041  Supplier Part Number 1: ISD1760SY-ND  (hidden comment: ISD1760SY)
Voice Record/Playback IC Multiple Message 40 ~ 120 Sec Pushbutton, SPI 28-SOIC; Manufacturer Part Number 1: ISD1760SY; Supplier 1: Digi-Key
footprint ISD1760SY
pins: 1 VCCD, 2 ~{LED}, 3 ~{RESET}, 4 MISO, 5 MOSI, 6 SCLK, 7 ~{SS}, 8 VSSA, 9 AnaIn, 10 MIC+, 11 MIC-, 12 VSSP2, 13 SP-, 14 VCCP, 15 Sp+, 16 VSSP1, 17 AUD/AUX, 18 AGC, 19 ~{VOL}, 20 ROSC, 21 VCCA, 22 ~{FT}, 23 ~{PLAY}, 24 ~{REC}, 25 ~{ERASE}, 26 ~{FWD}, 27 ~{INT}/RDY, 28 VSSD

## LD1117S33TR
designator U?  ADAM Inventory Number 1: E00040
IC REG LINEAR 3.3V 800MA SOT223; Manufacturer: STMicroelectronics; Current - Quiescent (Iq): 10 mA; Number of Regulators: 1; Output Configuration: Positive; Output Type: Fixed; Protection Features: Over Current, Over Temperature; PSRR: 75dB (120Hz); Voltage Dropout (Max): 1.2V @ 800mA; Voltage - Input (Max): 15V; Manufacturer Part Number 1: LD1117S33TR; ComponentLink1Description: Datasheet; ComponentLink1URL: http://www.st.com/content/ccc/resource/technical/document/datasheet/99/3b/7d/91/91/51/4b/be/CD00000544.pdf/files/CD00000544.pdf/jcr:content/translations/en.CD00000544.pdf; ComponentLink2Description: DigiKey Link; ComponentLink2URL: https://www.digikey.com/en/products/detail/stmicroelectronics/LD1117S33TR/585766; Current - Output: 800mA; LastUpdated: 2023-03-27 20:01:10; Lifecycle Status: Active; Minimum Order: 1; Mounting Type: Surface Mount; Operating Temperature: 0°C ~ 125°C; Package / Case: TO-261-4, TO-261AA; Packaging: TapeAndReel; Part Status: Active; Price: 0.21; Series: -; Supplier 1: DigiKey; Supplier Part Number 1: 497-1242-1-ND; Supplier Device Package: SOT-223; Voltage - Output (Min/Fixed): 3.3V
footprint SOT-223 (For reg or other chip format SOT223)
pins: 1 GND, 2 VOUT, 3 VIN, 4 VOUT

## LDO 5V 1.5A
designator U?  ADAM Inventory Number 1: E00039
IC REG LINEAR 5V 1.5A DPAK; Manufacturer: STMicroelectronics; Manufacturer Part Number 1: L7805CDT-TR; Source: IC_Component.SchLib; Design Item ID: LDO 5V 1.5A; Supplier: Digi-Key; Component Type: Power Supply; Supplier 1: Digi-Key; Supplier Part Number 1: 497-7255-1-ND
footprint LDO 5V 1.5A
pins: 1 IN, 2 GND, 3 OUT

## LF50CDT-TR
designator U?  ADAM Inventory Number 1: E00038
Linear Voltage Regulator IC Positive Fixed 1 Output 500mA DPAK; Supplier 1: Digi-Key; Manufacturer Part Number 1: LF50CDT-TR; Supplier Part Number 1: 497-1534-1-ND
footprint LDO 5V
pins: 1 IN, 2 GND, 3 OUT

## LIS3MDLTR
designator U?  ADAM Inventory Number 1: E00037
Magnetoresistive Sensor X, Y, Z Axis 12-LGA (2x2); Supplier 1: Digi-Key; Supplier Part Number 1: 497-13892-1-ND; Manufacturer Part Number 1: LIS3MDLTR
footprint XDCR_LIS3MDLTR
pins: 1 SCL/SPC, 2 RSVD1, 3 GND, 4 C1, 5 VDD, 6 VDD_IO, 7 INT, 8 DRDY, 9 SDO/SA1, 10 CS, 11 SDA/SDI/SDO, 12 RSVD2

## LSM6DSMTR
designator U?  ADAM Inventory Number 1: E00036
Accelerometer, Gyroscope, Temperature, 6 Axis Sensor I²C, SPI Output; Supplier 1: Digi-Key; Supplier Part Number 1: 497-16696-1-ND; Manufacturer Part Number 1: LSM6DSMTR
footprint PQFN50P300X250X86-14N
pins: 1 SDO/SA0, 2 SDX, 3 SCX, 4 INT1, 5 VDDIO, 6 GND, 7 GND, 8 VDD, 9 INT2/DEN/MDRDY, 10 OCS_AUX, 11 SDO_AUX, 12 CS, 13 SCL/SPC, 14 SDA/SDI/SDO

## MAX98357AEWL+T
designator U?  ADAM Inventory Number 1: E00035
Mfr_Name: Analog Devices Inc; Copyright: Copyright (C) 2023 Ultra Librarian. All rights reserved.; Manufacturer Part Number 1: MAX98357AEWL+T; RefDes: RefDes; Type: DEV
footprint 21-0896B_9_MXM
pins: A1 *SD_MODE, A2 VDD (power), A3 OUTP (out), B1 DIN, B2 GAIN_SLOT, B3 OUTN (out), C1 BCLK, C2 GND, C3 LRCLK

## MCP73831T-2ACI/OT
designator U?  ADAM Inventory Number 1: E00034
Battery lipo charger; Mfr_Name: Honeywell; Copyright: Copyright (C) 2023 Ultra Librarian. All rights reserved.; Manufacturer Part Number 1: MCP73831T-2ACI/OT; RefDes: RefDes; Type: DEV; Supplier 1: Digi-Key; Supplier Part Number 1: MCP73831T-2ACI/OTCT-ND
footprint SOT23_MCP73831T-2ACI/OT_HNW
pins: 1 VDD, 2 STAT, 3 VSS, 4 PROG, 5 VBAT

## MMBT2222ATT1G
designator Q?  ADAM Inventory Number 1: E00007  Supplier Part Number 1: MMBT2222ATT1GOSCT-ND
TRANS NPN 40V 0.6A SOT-723; Manufacturer: ON Semiconductor; Current - Collector Cutoff (Max): 10nA (ICBO); Current - Collector (Ic) (Max): 600mA; DC Current Gain (hFE) (Min) @ Ic, Vce: 100 @ 150mA, 10V; Frequency - Transition: 300MHz; Power - Max: 640mW; Vce Saturation (Max) @ Ib, Ic: 1V @ 50mA, 500mA; Manufacturer Part Number 1: MMBT2222ATT1G; ComponentLink1Description: Datasheet; ComponentLink1URL: http://www.onsemi.com/pub/Collateral/MMBT2222AM3-D.PDF; ComponentLink2Description: DigiKey Link; ComponentLink2URL: http://digikey.com/product-detail/en/on-semiconductor/MMBT2222AM3T5G/MMBT2222AM3T5GOSCT-ND/3487571; LastUpdated: 2023-03-28 20:16:11; Lifecycle Status: Active; Minimum Order: 1; Mounting Type: Surface Mount; Operating Temperature: -55°C ~ 150°C (TJ); Package / Case: SOT-723; Packaging: TapeAndReel; PartId: 22; Part Status: Active; Price: 0.03; Series: -; Supplier Device Package: SOT-723; Transistor Type: NPN; Voltage - Collector Emitter Breakdown (Max): 40V; Supplier 1: Digi-Key
footprint SOT-723 (For resistance NPN)
pins: 1 B, 2 E, 3 C

## MP28167GQ-P
designator U?  ADAM Inventory Number 1: E00033
Buck-Boost Switching Regulator IC Positive Fixed 5V 1 Output 3A 16-PowerVFQFN; Supplier 1: Digi-Key; Supplier Part Number 1: 1589-MP28167GQ-PCT-ND; Manufacturer Part Number 1: MP28167GQ-P
footprint MP2816GQ-P (Footprint for the buck boost MP2816GQ-P)
pins: 1 IN, 2 GND, 3 EN, 4 NC, 5 RSV1, 6 RSV2, 7 OC, 8 NC, 9 VCC, 10 AGND, 11 GND, 12 OUT, 13 BST2, 14 SW2, 15 SW1, 16 BST1

## NA Cap 0603
designator C?, comment NA Cap  ADAM Inventory Number 1: E00080
No capacitor, just in case
footprint CAP 0603 (Cap ceramique 0603)
pins: 1, 2

## NA Res 0603
designator R?, comment NA  ADAM Inventory Number 1: E00032
No resistance, just in case; Manufacturer Part Number 1: RC0603JR-070RL; Value: NA; Supplier 1: Digi-Key; Supplier Part Number 1: 311-0.0GRCT-ND
footprint RES 0603
pins: 1, 2

## PMEG2010ER,115
designator D?  ADAM Inventory Number 1: E00031
Diode shotkey; Manufacturer Part Number 1: PMEG2010ER115; Supplier 1: Digi-Key; Supplier Part Number 1: 1727-5192-1-ND
footprint DIODE_PMEG2010ER,115_NEX
pins: 1 K, 2 A

## PYQ_1548/7660
designator A
Sensor PIR _Passive Infrared_ Low Power TO-5 Variant, 4 Leads, Lens Top Metal Can; MF: Excelitas Technologies; MP: PYQ 1548/7660; Package: TO-5 Excelitas Technologies; Price: None; Availability: Unavailable; SnapEDA_Link: https://www.snapeda.com/parts/PYQ%201548/7660/Excelitas%20Technologies/view-part/4328334/?ref=snap; Value: *
footprint TO254P940H440-4
pins: 1 VSS (power), 2 DIRECT_LINK (io), 3 VDD (power), 4 SERIAL_IN (in)

## REG LIN 3.3V
designator U?, comment AP2112K-3.3TRG1  ADAM Inventory Number 1: E00030
REG LINEAIRE 3.3V; Manufacturer Part Number 1: AP2112K-3.3TRG1; Supplier 1: Future Electronics; Supplier Part Number 1: 8043011
pins: 1 VIN, 2 GND, 3 EN, 4 OUT, 5 P4

## RES SMD 1.2K OHM
designator R?, comment ADAM Inventory Number 1: E00024  (hidden comment: 1.2K)
RES SMD 1.2K OHM 1% 1/10W 0603; Manufacturer Part Number 1: RT0603FRE071K2L; Manufacturer: Yageo; Power (Watts): 0.1W, 1/10W; Temperature Coefficient: ±50ppm/°C; ComponentLink1Description: Datasheet; ComponentLink1URL: https://www.yageo.com/upload/media/product/productsearch/datasheet/rchip/PYu-RT_1-to-0.01_RoHS_L_11.pdf; ComponentLink2Description: DigiKey Link; ComponentLink2URL: https://www.digikey.com/en/products/detail/yageo/RT0603FRE071K2L/1075167; Composition: Thin Film; Device Package: 0603 (1608 Metric); Height - Seated (Max): 0.022" (0.55mm); LastUpdated: 2023-04-04 19:29:46; Lifecycle Status: Active; Minimum Order: 1; Number of Terminations: 2; Operating Temperature: -55°C ~ 155°C; Package / Case: 0603 (1608 Metric); Packaging: TapeAndReel; PartId: 5172; Part Status: Active; Price: 0.01; Resistance: 1.2K; Series: RT; Size / Dimension: 0.063" L x 0.031" W (1.60mm x 0.80mm); Supplier 1: DigiKey; Supplier Part Number 1: YAG5943CT-ND; Supplier Device Package: 0603; Tolerance: ±1%; Value: 1.2K
footprint RES 0603
pins: 1, 2

## RES SMD 1K OHM
designator R?, comment ADAM Inventory Number 1: E00028  (hidden comment: 1K)
RES 1K OHM 1% 1/4W 0603; Manufacturer Part Number 1: SR0603FR-7T1KL; Manufacturer: Yageo; Power (Watts): 0.25W, 1/4W; Temperature Coefficient: ±100ppm/°C; ComponentLink1Description: Datasheet; ComponentLink1URL: http://www.yageo.com/documents/recent/PYu-SR_D_F%20tol_RoHS_L_4.pdf; ComponentLink2Description: DigiKey Link; ComponentLink2URL: https://www.digikey.com/en/products/detail/yageo/SR0603FR-7T1KL/9373103; Composition: Thick Film; Device Package: 0603 (1608 Metric); Features: Automotive AEC-Q200, Pulse Withstanding; Height - Seated (Max): 0.022" (0.55mm); LastUpdated: 2023-03-28 19:29:47; Lifecycle Status: Active; Minimum Order: 1; Number of Terminations: 2; Operating Temperature: -55°C ~ 155°C; Package / Case: 0603 (1608 Metric); Packaging: TapeAndReel; PartId: 10088; Part Status: Active; Price: 0.16; Ratings: AEC-Q200; Resistance: 1K; Series: SR; Size / Dimension: 0.063" L x 0.031" W (1.60mm x 0.80mm); Supplier 1: DigiKey; Supplier Part Number 1: YAG5829CT-ND; Supplier Device Package: 0603; Tolerance: ±1%; Value: 1K
footprint RES 0603
pins: 1, 2

## RES SMD 4.7K OHM
designator R?, comment ADAM Inventory Number 1: E00025  (hidden comment: 4.7K)
RES 4.7K OHM 1% 1/10W 0603; Manufacturer Part Number 1: RC0603FR-074K7L; Manufacturer: Stackpole Electronics Inc; Power (Watts): 0.1W, 1/10W; Temperature Coefficient: ±100ppm/°C; ComponentLink1Description: Datasheet; ComponentLink1URL: https://www.seielect.com/catalog/sei-rmcf_rmcp.pdf; ComponentLink2Description: DigiKey Link; ComponentLink2URL: https://www.digikey.com/en/products/detail/stackpole-electronics-inc/RMCF0603FT4K70/1760998; Composition: Thick Film; Device Package: 0603 (1608 Metric); Features: Automotive AEC-Q200; Height - Seated (Max): 0.022" (0.55mm); LastUpdated: 2023-04-04 19:29:43; Lifecycle Status: Active; Minimum Order: 1; Number of Terminations: 2; Operating Temperature: -55°C ~ 155°C; Package / Case: 0603 (1608 Metric); Packaging: CutTape; PartId: 6078; Part Status: Active; Price: 0.01; Ratings: AEC-Q200; Resistance: 4.7K; Series: RMCF; Size / Dimension: 0.061" L x 0.031" W (1.55mm x 0.80mm); Supplier Device Package: 0603; Tolerance: ±1%; Supplier 1: Digi-Key; Supplier Part Number 1: 311-4.70KHRCT-ND; Value: 4.7K
footprint RES 0603
pins: 1, 2